# Altium footprint library kicker_andrei.PcbLib: 4 footprints
Each footprint in its own frame and in the unit in brackets; x right, y up, seen from the top. Pads: shape width x height; smd on the part's side, far side on the other; paste and mask are expansions set on the pad; w line width, h text height; cw(c..) or ccw(c..) is an arc to the next point about the centre after c.
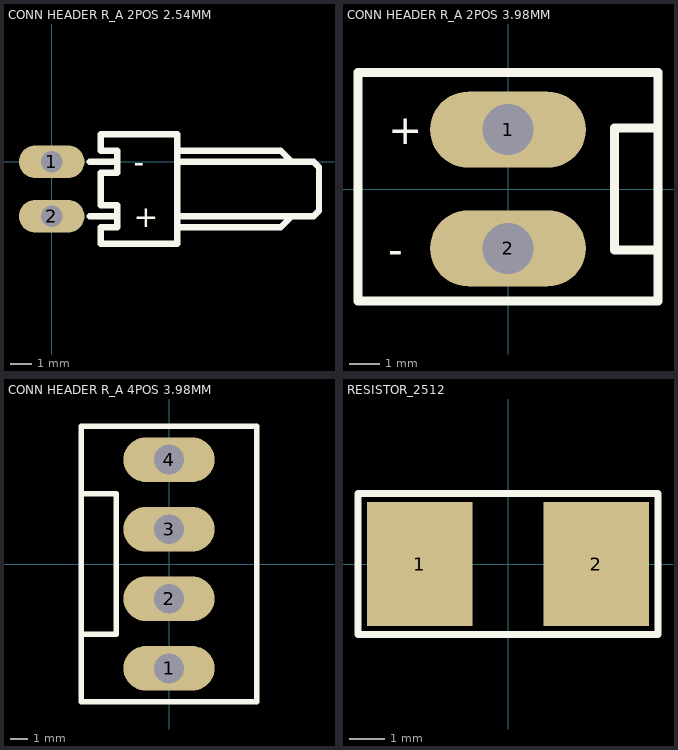
[diagram p0: the footprints below, top view; thin cyan lines are the x and y axes]

## CONN HEADER R_A 2POS 2.54MM [mil] "Conn Wire to Board HDR 2 POS 2.54mm Solder RA Thru-Hole Bag"
pads (2):
  oval 120x60 hole 40.16: 1(0,0) 2(0,-100)
Top Overlay:
  lines w11.81: 70,-100 115,-100 ; 70,0 120,0 ; 230,-120 420,-120 440,-100 ; 230,-100 480,-100 490,-90 490,-10 480,0 460,0 230,0 ; 230,20 420,20 440,0 ; 90,-150 90,-120 120,-120 120,-110 120,-80 90,-80 90,-20 120,-20 120,20 90,20 90,50 110,50 230,50 230,-150 110,-150 90,-150
  text "+" at 150,-120 h39.37
  text "-" at 150,-20 h39.37
3D body "022053021.stp": height 262.8, standoff -128.2, extent -20,-150 489,44

## CONN HEADER R_A 2POS 3.98MM [mm] "Connector Header Through Hole, Right Angle 2 position 0.156\" (3.96mm)"
pads (2):
  oval 5.2x2.54 hole 1.7: 1(0,1.98) 2(0,-1.98)
Top Overlay:
  lines w0.3: 4.826,-2.032 3.556,-2.032 3.556,2.032 4.826,2.032 ; -5,-3.73 5,-3.73 5,3.88 -5,3.88 -5,-3.73
  text "+" at -4,1.5 h1
  text "-" at -4,-2.5 h1
3D body "026605020.stp": height 15, standoff -5.71, extent -8.928,-3.632 5.042,4.14

## CONN HEADER R_A 4POS 3.98MM [mm] "Connector Header Through Hole, Right Angle 4 position 0.156\" (3.96mm)"
pads (4):
  oval 5.2x2.54 hole 1.7: 1(0,-5.94) 2(0,-1.98) 3(0,1.98) 4(0,5.94)
Top Overlay:
  lines w0.3: -5,-4 -3,-4 -3,4 -5,4 ; -5,-7.85 -5,7.85 5,7.85 5,-7.85 -5,-7.85
3D body "026605040.stp": height 14.8, standoff -5.91, extent -4.816,-7.598 9.154,8.099

## RESISTOR_2512 [mm]
pads (2):
  rect 3x3.5 smd: 1(-2.5,0) 2(2.5,0)
Top Overlay:
  lines w0.2: -4.25,-2 -4.25,-0.5 -4.25,2 4.25,2 4.25,-2 -4.25,-2
3D body "RHC2512_stp.stp": height 0.59, standoff -0.01, extent -3.125,-1.6 3.175,1.6